# Altium schematic symbol library Power Module.SchLib: 1 symbol
Pins are listed as number, name and electrical type; pins without a type are passive.

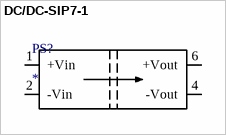
[diagram p0: symbol DC/DC-SIP7-1]

## DC/DC-SIP7-1
designator PS?
DC/DC-module SIP7 single output; Name: *
pins: 1 +Vin, 2 -Vin, 4 -Vout, 6 +Vout